# Altium footprint library linear.PCBLIB: 119 footprints (part 6 of 8)
Each footprint in its own frame and in the unit in brackets; x right, y up, seen from the top. Pads: shape width x height; smd on the part's side, far side on the other; paste and mask are expansions set on the pad; w line width, h text height; cw(c..) or ccw(c..) is an arc to the next point about the centre after c.
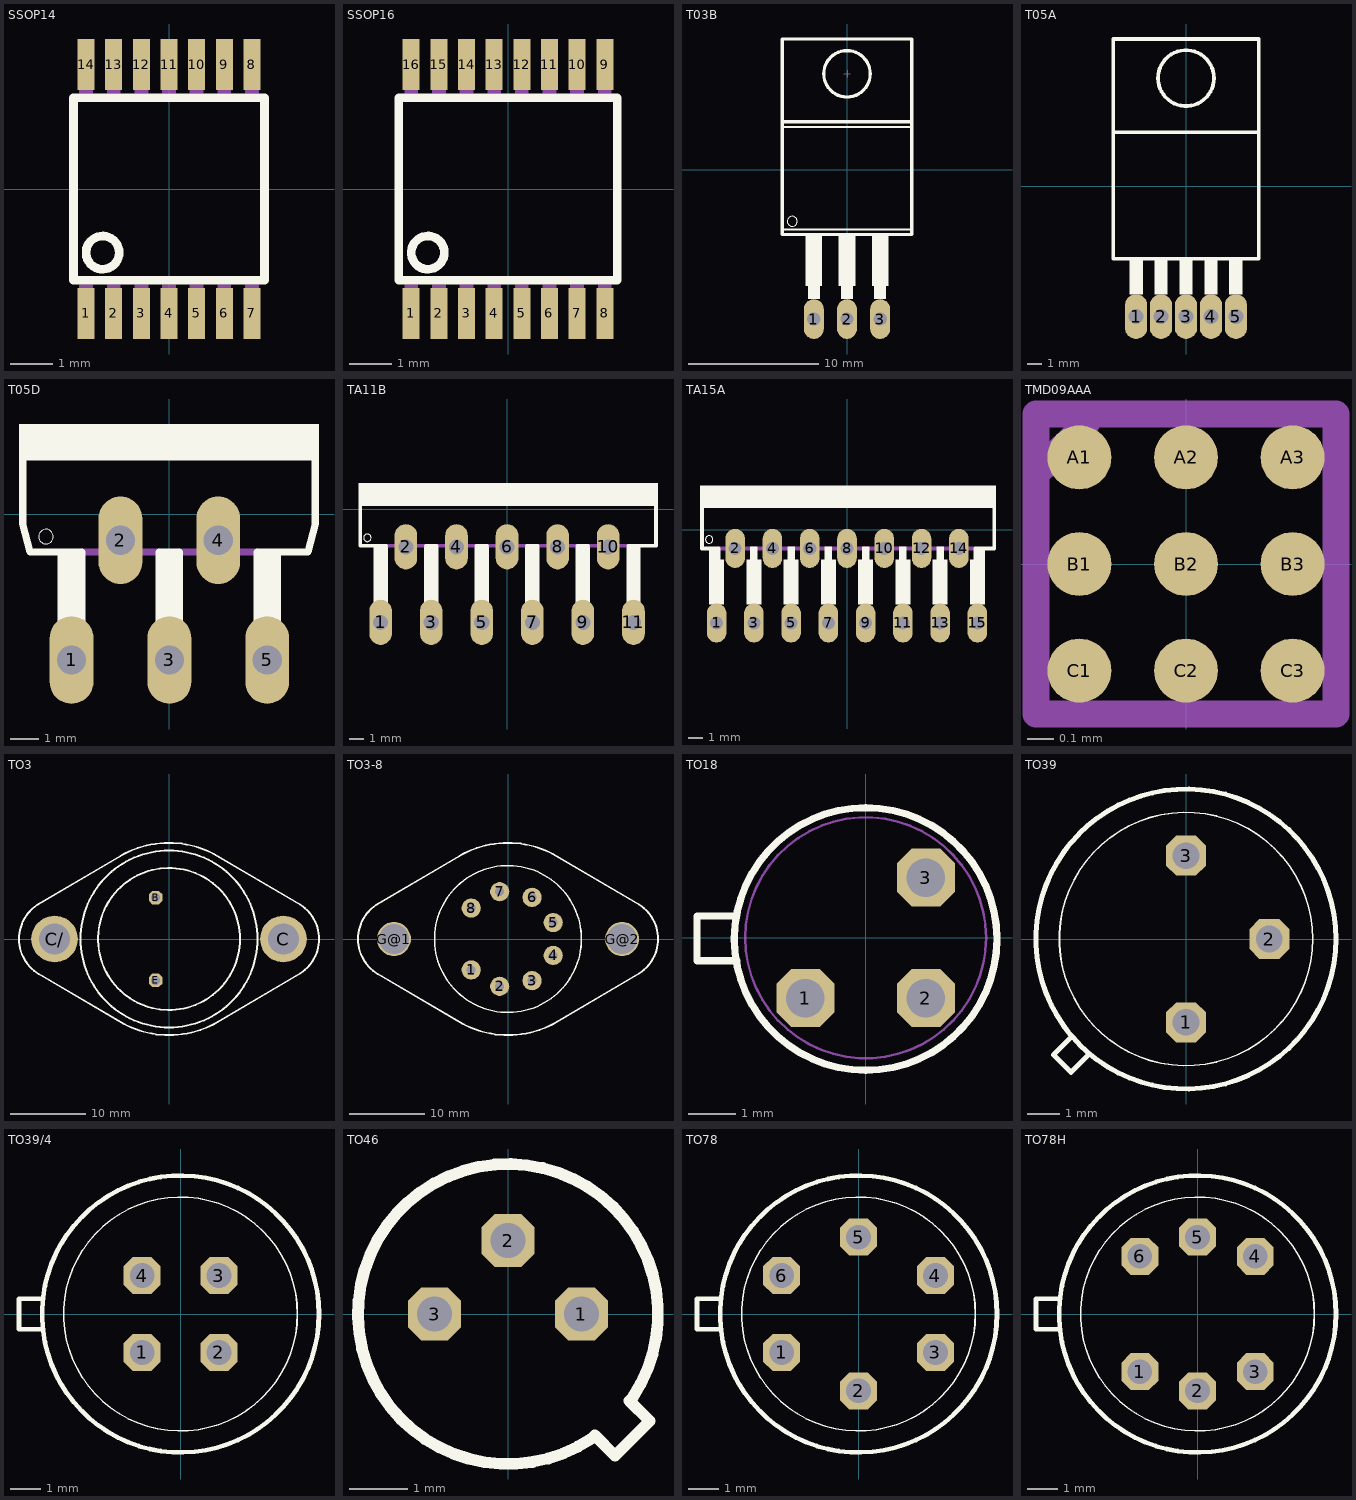
[diagram p5: the footprints below, top view; thin cyan lines are the x and y axes]

## SSOP14 [mm]
pads (14):
  rect 0.4x1.2 smd: 1(-1.95,-2.925) 2(-1.3,-2.925) 3(-0.65,-2.925) 4(0,-2.925) 5(0.65,-2.925) 6(1.3,-2.925) 7(1.95,-2.925) 8(1.95,2.925) 9(1.3,2.925) 10(0.65,2.925) 11(0,2.925) 12(-0.65,2.925) 13(-1.3,2.925) 14(-1.95,2.925)
Top Overlay:
  circle w0.203: c-1.56,-1.495 r0.39
  lines w0.203: -2.243,-2.145 2.243,-2.145 2.243,2.145 -2.243,2.145 -2.243,-2.145
Mechanical 16:
  rectangle: -2.113,-3.315 -1.787,-2.243
  rectangle: -1.463,-3.315 -1.137,-2.243
  rectangle: -0.813,-3.315 -0.487,-2.243
  rectangle: -0.163,-3.315 0.163,-2.243
  rectangle: 0.487,-3.315 0.813,-2.243
  rectangle: 1.137,-3.315 1.463,-2.243
  rectangle: 1.787,-3.315 2.113,-2.243
  region: 2.113,3.315 1.787,3.315 1.787,2.243 2.113,2.243
  rectangle: 1.137,2.243 1.463,3.315
  rectangle: 0.487,2.243 0.813,3.315
  rectangle: -0.163,2.243 0.163,3.315
  rectangle: -0.813,2.243 -0.487,3.315
  rectangle: -1.463,2.243 -1.137,3.315
  rectangle: -2.113,2.243 -1.787,3.315

## SSOP16 [mil]
pads (16):
  rect 15.75x47.24 smd: 1(-89.57,-115.16) 2(-63.98,-115.16) 3(-38.39,-115.16) 4(-12.8,-115.16) 5(12.8,-115.16) 6(38.39,-115.16) 7(63.98,-115.16) 8(89.57,-115.16) 9(89.57,115.16) 10(63.98,115.16) 11(38.39,115.16) 12(12.8,115.16) 13(-12.8,115.16) 14(-38.39,115.16) 15(-63.98,115.16) 16(-89.57,115.16)
Top Overlay:
  circle w8: c-74.21,-58.86 r15.35
  lines w8: -101.1,-84.45 101.1,-84.45 101.1,84.45 -101.1,84.45 -101.1,-84.45
Mechanical 16:
  rectangle: -95.96,-130.51 -83.17,-88.29
  rectangle: -70.37,-130.51 -57.58,-88.29
  rectangle: -44.78,-130.51 -31.99,-88.29
  rectangle: -19.19,-130.51 -6.4,-88.29
  rectangle: 6.4,-130.51 19.19,-88.29
  rectangle: 31.99,-130.51 44.78,-88.29
  rectangle: 57.58,-130.51 70.37,-88.29
  rectangle: 83.17,-130.51 95.96,-88.29
  rectangle: 83.17,88.29 95.96,130.51
  rectangle: 57.58,88.29 70.37,130.51
  rectangle: 31.99,88.29 44.78,130.51
  rectangle: 6.4,88.29 19.19,130.51
  rectangle: -19.19,88.29 -6.4,130.51
  rectangle: -44.78,88.29 -31.99,130.51
  rectangle: -70.37,88.29 -57.58,130.51
  rectangle: -95.96,88.29 -83.17,130.51

## T03B [mil]
pads (3):
  oval 60x120 hole 40: 1(-100,-450) 2(0,-450) 3(100,-450)
Top Overlay:
  circle w0: c-165,-155 r15
  circle w10: c0,290 r70
  rectangle: -125,-350 -75,-198
  rectangle: -118,-390 -82,-348
  rectangle: -25,-350 25,-198
  rectangle: -18,-390 18,-348
  rectangle: 75,-350 125,-198
  rectangle: 82,-390 118,-348
  lines w6: -190,-180 190,-180 ; -190,130 190,130
  lines w10: -195,145 -195,-195 195,-195 195,145 ; -195,145 -195,395 195,395 195,145 ; -195,145 195,145
Mechanical 16:
  lines w2: -10,290 10,290 ; 0,280 0,300

## T05A [mil]
pads (5):
  oval 60x120 hole 40: 1(-134,-350) 2(-67,-350) 3(0,-350) 4(67,-350) 5(134,-350)
Top Overlay:
  circle w10: c0,290 r75
  rectangle: -152,-290 -116,-195
  rectangle: -85,-290 -49,-195
  rectangle: -18,-290 18,-195
  rectangle: 49,-290 85,-195
  rectangle: 116,-290 152,-195
  lines w10: -195,145 -195,-195 195,-195 195,145 ; -195,145 195,145 ; -195,145 -195,395 195,395 195,145

## T05D [mil]
pads (5):
  oval 60x120 hole 40: 1(-134,-200) 2(-67,-36) 3(0,-200) 4(67,-36) 5(134,-200)
Top Overlay:
  circle w0: c-169,-31 r10
  rectangle: -206,73 205,123
  rectangle: -153,-152 -115,-53
  rectangle: -19,-152 19,-53
  rectangle: 115,-152 153,-53
  lines w10: -201,79 -201,-13 -191,-52 -120,-52 ; -14,-52 14,-52 ; 120,-52 190,-52 200,-13 200,79
Mechanical 16:
  lines w10: -120,-52 -14,-52 ; 14,-52 120,-52

## TA11B [mil]
pads (11):
  oval 60x120 hole 40: 1(-335,-300) 2(-268,-100) 3(-201,-300) 4(-134,-100) 5(-67,-300) 6(0,-100) 7(67,-300) 8(134,-100) 9(201,-300) 10(268,-100) 11(335,-300)
Top Overlay:
  circle w0: c-370,-76 r10
  rectangle: -354,-252 -316,-100
  rectangle: -220,-252 -182,-100
  rectangle: -86,-252 -48,-100
  rectangle: 48,-252 86,-100
  rectangle: 182,-252 220,-100
  rectangle: 316,-252 354,-100
  rectangle: -394,8 400,69
  lines w10: -389,11 -389,-97 -321,-97 ; -215,-97 -187,-97 ; -81,-97 -53,-97 ; 53,-97 81,-97 ; 187,-97 215,-97 ; 321,-97 395,-97 395,34
Mechanical 16:
  lines w10: -321,-97 -215,-97 ; -187,-97 -81,-97 ; -53,-97 53,-97 ; 81,-97 187,-97 ; 215,-97 321,-97

## TA15A [mil]
pads (15):
  oval 52.5x105 hole 35: 1(-350,-250) 2(-300,-50) 3(-250,-250) 4(-200,-50) 5(-150,-250) 6(-100,-50) 7(-50,-250) 8(0,-50) 9(50,-250) 10(100,-50) 11(150,-250) 12(200,-50) 13(250,-250) 14(300,-50) 15(350,-250)
Top Overlay:
  circle w0: c-370,-26 r10
  rectangle: -394,58 400,119
  rectangle: -370,-85 -340,-50
  rectangle: -370,-200 -330,-80
  rectangle: -270,-200 -230,-80
  rectangle: -260,-90 -240,-45
  rectangle: -170,-200 -130,-80
  rectangle: -160,-90 -140,-45
  rectangle: -70,-200 -30,-80
  rectangle: -60,-90 -40,-45
  rectangle: 30,-200 70,-80
  rectangle: 40,-90 60,-45
  rectangle: 130,-200 170,-80
  rectangle: 140,-90 160,-45
  rectangle: 230,-200 270,-80
  rectangle: 240,-90 260,-45
  rectangle: 340,-85 370,-50
  rectangle: 330,-200 370,-80
  lines w10: -389,61 -389,-50 -345,-50 ; 345,-50 395,-50 395,84
Mechanical 16:
  lines w10: -345,-50 345,-50

## TMD09AAA [mil]
pads (9):
  rrect100% 9.45x9.45 smd: A1(-15.75,15.75) A2(0,15.75) A3(15.75,15.75) B1(-15.75,0) B2(0,0) B3(15.75,0) C1(-15.75,-15.75) C2(0,-15.75) C3(15.75,-15.75)
Top Solder:
  circle w0: c-15.75,15.75 r4.92
  circle w0: c0,15.75 r4.92
  circle w0: c15.75,15.75 r4.92
  circle w0: c-15.75,0 r4.92
  circle w0: c0,0 r4.92
  circle w0: c15.75,0 r4.92
  circle w0: c-15.75,-15.75 r4.92
  circle w0: c0,-15.75 r4.92
  circle w0: c15.75,-15.75 r4.92
Mechanical 16:
  lines w4: -21.16,14.27 -14.76,20.67 ; -22.15,-22.15 22.15,-22.15 22.15,22.15 -22.15,22.15 -22.15,-22.15

## TO3 [mil]
pads (4):
  oct 70.5x70.5 hole 47: B(-70,215) E(-70,-215)
  round 243 hole 162: C(595,0) C/(-595,0)
Top Overlay:
  circle w10: c0,0 r369
  circle w10: c0,0 r460
  lines w10: -680,180 -250,433 ; -679,-181 -234,-442 ; -675.41,-183.35 cw(c-567,0) -780,0 cw(c-567,0) -672.94,184.78 ; -250.86,432.52 cw(c-0.01,0) 0,500 cw(c0.01,-0.01) 235.3,441.18 ; -235.3,-441.18 ccw(c-0.01,0.01) 0,-500 ccw(c0.01,0) 250.86,-432.52 ; 235,441 684,178 ; 251,-433 684,-178 ; 682.54,-178.94 ccw(c567,0) 780,0 ccw(c567,0) 682.54,178.94
Mechanical 16:
  circle w6: c595,0 r85
  circle w6: c-595,0 r85

## TO3-8 [mm]
pads (10):
  round 2.54 hole 1.2: 1(-4.86,-4.08) 2(-1.1,-6.25) 3(3.18,-5.5) 4(5.97,-2.17) 5(5.97,2.17) 6(3.18,5.5) 7(-1.1,6.25) 8(-4.86,4.08)
  round 4.5 hole 4: G@1(-15.07,0) G@2(15.07,0)
Top Overlay:
  circle w0.203: c0,0 r9.7
  lines w0.254: -17.272,4.572 -6.35,10.998 ; -17.247,-4.597 -5.944,-11.227 ; -17.155,-4.657 cw(c-14.402,0) -19.812,0 cw(c-14.402,0) -17.093,4.693 ; -6.372,10.986 cw(c0,0) 0,12.7 cw(c0,0) 5.977,11.206 ; -5.977,-11.206 ccw(c0,0) 0,-12.7 ccw(c0,0) 6.372,-10.986 ; 5.969,11.201 17.374,4.521 ; 6.375,-10.998 17.374,-4.521 ; 17.337,-4.545 ccw(c14.402,0) 19.812,0 ccw(c14.402,0) 17.337,4.545

## TO18 [mil]
pads (3):
  oct 48x48 hole 32: 1(-50,-50) 2(50,-50) 3(50,50)
Top Overlay:
  circle w6: c0,-1 r109
  lines w6: -108,18 -140,18 -140,-19 -107,-19
Mechanical 16:
  circle w2: c0,0 r100

## TO39 [mil]
pads (3):
  oct 48x48 hole 32: 1(0,-100) 2(100,0) 3(0,100)
Top Overlay:
  circle w6: c0,0 r180
  circle w2: c0,0 r152
  lines w6: -138,-118 -159,-139 -138,-160 -117,-139

## TO39/4 [mil]
pads (4):
  oct 48x48 hole 32: 1(-50,-50) 2(50,-50) 3(50,50) 4(-50,50)
Top Overlay:
  circle w6: c0,0 r180
  circle w2: c0,0 r152
  lines w6: -180,-20 -210,-20 -210,20 -180,20

## TO46 [mil]
pads (3):
  oct 36x36 hole 24: 1(50,0) 2(0,50) 3(-50,0)
Top Overlay:
  lines w8: 57.09,-84.65 cw(c0,0) 84.65,-57.09 ; 59.06,-82.68 72.83,-96.46 96.46,-72.83 82.68,-59.06

## TO78 [mil]
pads (6):
  oct 48x48 hole 32: 1(-100,-50) 2(0,-100) 3(100,-50) 4(100,50) 5(0,100) 6(-100,50)
Top Overlay:
  circle w6: c0,0 r180
  circle w2: c0,0 r152
  lines w6: -180,-20 -210,-20 -210,20 -180,20

## TO78H [mil]
pads (6):
  oct 48x48 hole 32: 1(-75,-75) 2(0,-100) 3(75,-75) 4(75,75) 5(0,100) 6(-75,75)
Top Overlay:
  circle w6: c0,0 r180
  circle w2: c0,0 r152
  lines w6: -180,-20 -210,-20 -210,20 -180,20